# Altium footprint library test.PcbLib: 1 footprints
Each footprint in its own frame and in the unit in brackets; x right, y up, seen from the top. Pads: shape width x height; smd on the part's side, far side on the other; paste and mask are expansions set on the pad; w line width, h text height; cw(c..) or ccw(c..) is an arc to the next point about the centre after c.
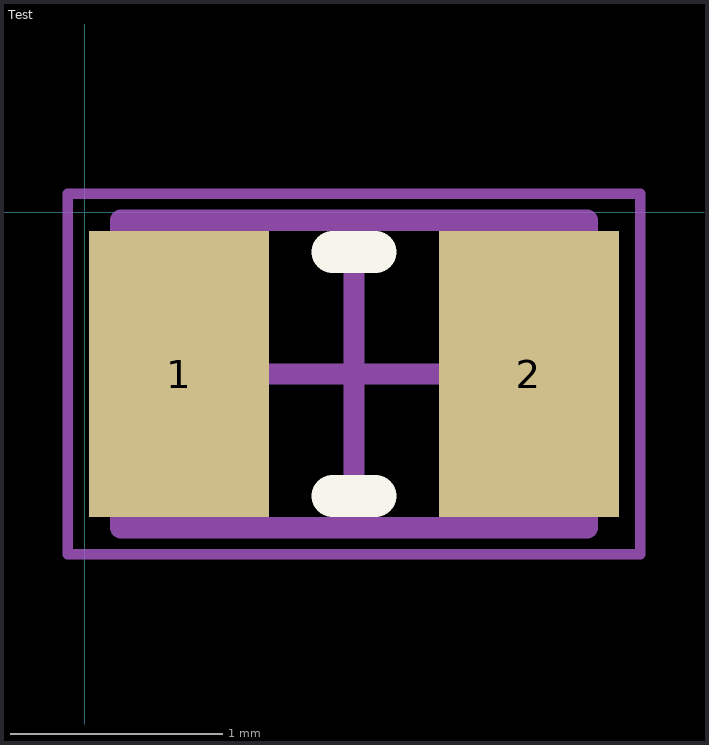
[diagram p0: the footprint, top view; thin cyan lines are the x and y axes]

## Test [mm]
pads (2):
  rect 0.85x1.35 smd: 1(0.445,-0.762) 2(2.095,-0.762)
Top Overlay:
  lines w0.2: 1.17,-1.337 1.37,-1.337 ; 1.17,-0.187 1.37,-0.187
Mechanical 13:
  lines w0.1: 0.17,-1.487 2.37,-1.487 2.37,-0.037 0.17,-0.037 0.17,-1.487
Mechanical 15:
  lines w0.05: -0.08,-1.612 2.62,-1.612 2.62,0.088 -0.08,0.088 -0.08,-1.612
  lines w0.1: 0.77,-0.762 1.77,-0.762 ; 1.27,-1.262 1.27,-0.262
3D body: height 0.5, standoff 0, extent 2.07,-1.487 2.37,-0.037
3D body: height 0.5, standoff 0, extent 0.17,-1.487 0.47,-0.037
3D body: height 0.5, standoff 0, extent 0.47,-1.487 2.07,-0.037